# Altium integrated library Linx Technologies Integrated Circuit.IntLib: 9 symbols
Pins are listed as number, name and electrical type; pins without a type are passive.

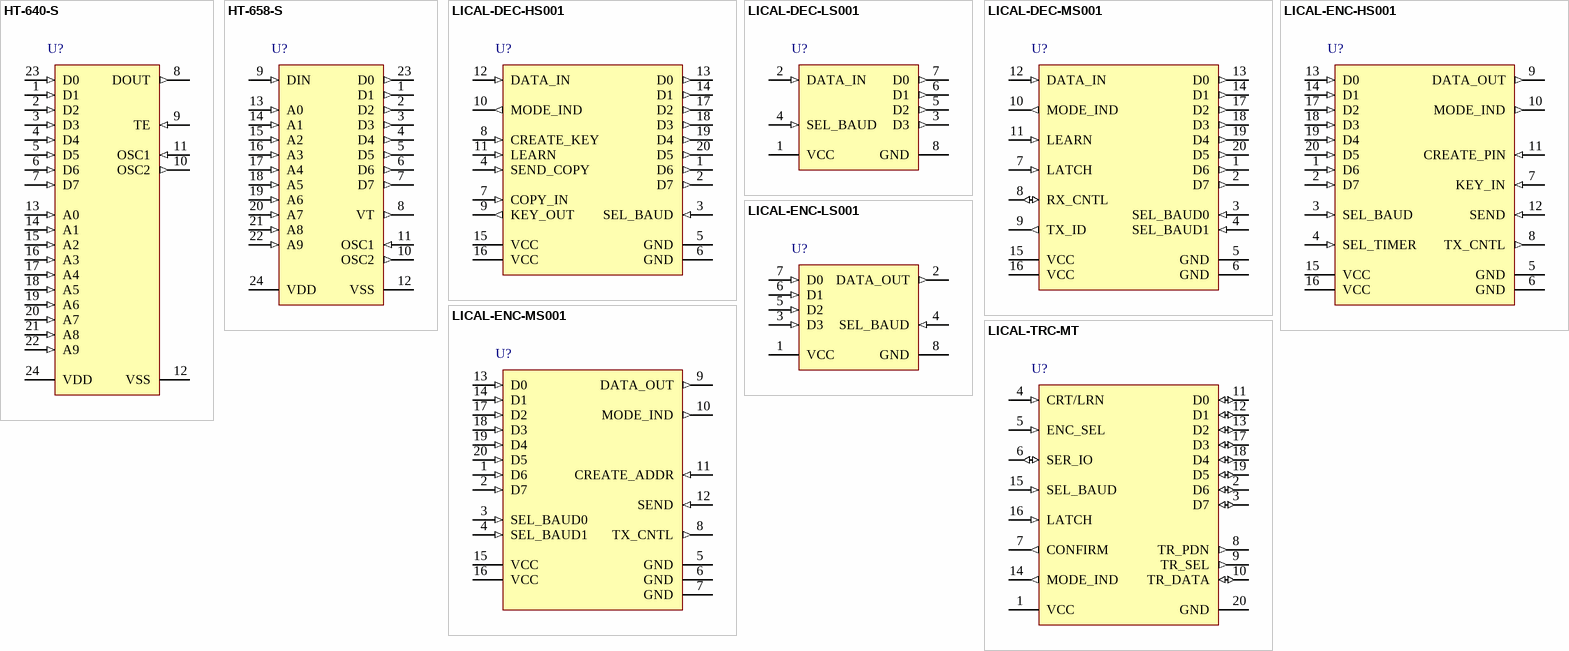
[diagram p0: symbols HT-640-S to LICAL-TRC-MT]

## HT-640-S
designator U?
Holtek Encoder for Remote Control, 24-Pin SOP; DatasheetVersion: 22/05/2004; PackageVersion: 22/05/2004; PackageReference: 24SOP; PackageDescription: 24-Pin Small Outline Package, 300mil Wide, 1.27 mm Pitch; Code_JEDEC: MS-013; ComponentLink1Description: Manufacturer URL; ComponentLink1URL: http://www.linxtechnologies.com/; ComponentLink2Description: Datasheet; ComponentLink2URL: http://www.linxtechnologies.com/Documents/HT640S_Specification.pdf
footprint SOIC127P1031X264-24N (SOIC, 24-Leads, Body 15.4x7.1mm, Pitch 1.27mm, IPC Medium Density)
footprint 24SOP_L (SOIC, 24-Leads, Body 15.4x7.1mm, Pitch 1.27mm, IPC High Density)
footprint 24SOP_M (SOIC, 24-Leads, Body 15.4x7.1mm, Pitch 1.27mm, IPC Low Density)
pins: 1 D1 (in), 2 D2 (in), 3 D3 (in), 4 D4 (in), 5 D5 (in), 6 D6 (in), 7 D7 (in), 8 DOUT (out), 9 TE (in), 10 OSC2 (out), 11 OSC1 (in), 12 VSS (power), 13 A0 (in), 14 A1 (in), 15 A2 (in), 16 A3 (in), 17 A4 (in), 18 A5 (in), 19 A6 (in), 20 A7 (in), 21 A8 (in), 22 A9 (in), 23 D0 (in), 24 VDD (power)

## HT-658-S
designator U?
Holtek Decoder for Remote Control, 24-Pin SOP; DatasheetVersion: 22/05/2004; PackageVersion: 22/05/2004; PackageReference: 24SOP; PackageDescription: 24-Pin Small Outline Package, 300mil Wide, 1.27 mm Pitch; Code_JEDEC: MS-013; ComponentLink1Description: Manufacturer URL; ComponentLink1URL: http://www.linxtechnologies.com/; ComponentLink2Description: Datasheet; ComponentLink2URL: http://www.linxtechnologies.com/Documents/HT658S_Specification.pdf
footprint SOIC127P1031X264-24N (SOIC, 24-Leads, Body 15.4x7.1mm, Pitch 1.27mm, IPC Medium Density)
footprint 24SOP_L (SOIC, 24-Leads, Body 15.4x7.1mm, Pitch 1.27mm, IPC High Density)
footprint 24SOP_M (SOIC, 24-Leads, Body 15.4x7.1mm, Pitch 1.27mm, IPC Low Density)
pins: 1 D1 (out), 2 D2 (out), 3 D3 (out), 4 D4 (out), 5 D5 (out), 6 D6 (out), 7 D7 (out), 8 VT (out), 9 DIN (in), 10 OSC2 (out), 11 OSC1 (in), 12 VSS (power), 13 A0 (in), 14 A1 (in), 15 A2 (in), 16 A3 (in), 17 A4 (in), 18 A5 (in), 19 A6 (in), 20 A7 (in), 21 A8 (in), 22 A9 (in), 23 D0 (out), 24 VDD (power)

## LICAL-DEC-HS001
designator U?
High Security Encrypted RF Remote Control Decoder, HS Series, 20-Pin SSOP; DatasheetVersion: 28/01/2008; PackageVersion: 28/01/2008; PackageReference: SSOP-20W2; PackageDescription: 20-pin Shrink Small Outline Package, 7.2 x 5.25 mm Body, 0.65 mm Pitch; ComponentLink1Description: Manufacturer URL; ComponentLink1URL: http://www.linxtechnologies.com/; ComponentLink2Description: Datasheet; ComponentLink2URL: http://www.linxtechnologies.com/Documents/LICAL-DEC-HS001_Data_Guide.pdf
footprint SSOP-20W2 (SSOP, 20-Leads, Body 7.2x5.25mm, Pitch 0.65mm)
pins: 1 D6 (out), 2 D7 (out), 3 SEL_BAUD (in), 4 SEND_COPY (in), 5 GND (power), 6 GND (power), 7 COPY_IN (in), 8 CREATE_KEY (in), 9 KEY_OUT (out), 10 MODE_IND (out), 11 LEARN (in), 12 DATA_IN (in), 13 D0 (out), 14 D1 (out), 15 VCC (power), 16 VCC (power), 17 D2 (out), 18 D3 (out), 19 D4 (out), 20 D5 (out)

## LICAL-DEC-LS001
designator U?
Remote Control Decoder, LS Series, DIP; DatasheetVersion: 28/01/2008; PackageVersion: 28/01/2008; PackageReference: DIP-8; PackageDescription: 8-Pin Dual In-Line Package (PDIP); ComponentLink1Description: Manufacturer URL; ComponentLink1URL: http://www.linxtechnologies.com/; ComponentLink2Description: Datasheet; ComponentLink2URL: http://www.linxtechnologies.com/Documents/LICAL-xxx-LS001_Data_Guide.pdf
footprint DIP-8 (DIP, 8-Pin, Row Spacing 7.62 mm, Pitch 2.54 mm)
pins: 1 VCC (power), 2 DATA_IN (in), 3 D3 (out), 4 SEL_BAUD (in), 5 D2 (out), 6 D1 (out), 7 D0 (out), 8 GND (power)

## LICAL-DEC-MS001
designator U?
Secure 8-Function RF Remote Control Decoder, MS Series, 20-Pin SSOP; DatasheetVersion: 28/01/2008; PackageVersion: 28/01/2008; PackageReference: SSOP-20W2; PackageDescription: 20-pin Shrink Small Outline Package, 7.2 x 5.25 mm Body, 0.65 mm Pitch; ComponentLink1Description: Manufacturer URL; ComponentLink1URL: http://www.linxtechnologies.com/; ComponentLink2Description: Datasheet; ComponentLink2URL: http://www.linxtechnologies.com/Documents/LICAL-DEC-MS001_Data_Guide.pdf
footprint SSOP-20W2 (SSOP, 20-Leads, Body 7.2x5.25mm, Pitch 0.65mm)
pins: 1 D6 (out), 2 D7 (out), 3 SEL_BAUD0 (in), 4 SEL_BAUD1 (in), 5 GND (power), 6 GND (power), 7 LATCH (in), 8 RX_CNTL (io), 9 TX_ID (out), 10 MODE_IND (out), 11 LEARN (in), 12 DATA_IN (in), 13 D0 (out), 14 D1 (out), 15 VCC (power), 16 VCC (power), 17 D2 (out), 18 D3 (out), 19 D4 (out), 20 D5 (out)

## LICAL-ENC-HS001
designator U?
High Security Encrypted RF Remote Control Encoder, HS Series, 20-Pin SSOP; DatasheetVersion: 28/01/2008; PackageVersion: 28/01/2008; PackageReference: SSOP-20W2; PackageDescription: 20-pin Shrink Small Outline Package, 7.2 x 5.25 mm Body, 0.65 mm Pitch; ComponentLink1Description: Manufacturer URL; ComponentLink1URL: http://www.linxtechnologies.com/; ComponentLink2Description: Datasheet; ComponentLink2URL: http://www.linxtechnologies.com/Documents/LICAL-ENC-HS001_Data_Guide.pdf
footprint SSOP-20W2 (SSOP, 20-Leads, Body 7.2x5.25mm, Pitch 0.65mm)
pins: 1 D6 (in), 2 D7 (in), 3 SEL_BAUD (in), 4 SEL_TIMER (in), 5 GND (power), 6 GND (power), 7 KEY_IN (in), 8 TX_CNTL (out), 9 DATA_OUT (out), 10 MODE_IND (out), 11 CREATE_PIN (in), 12 SEND (in), 13 D0 (in), 14 D1 (in), 15 VCC (power), 16 VCC (power), 17 D2 (in), 18 D3 (in), 19 D4 (in), 20 D5 (in)

## LICAL-ENC-LS001
designator U?
Remote Control Encoder, LS Series, DIP; DatasheetVersion: 28/01/2008; PackageVersion: 28/01/2008; PackageReference: DIP-8; PackageDescription: 8-Pin Dual In-Line Package (PDIP); ComponentLink1Description: Manufacturer URL; ComponentLink1URL: http://www.linxtechnologies.com/; ComponentLink2Description: Datasheet; ComponentLink2URL: http://www.linxtechnologies.com/Documents/LICAL-xxx-LS001_Data_Guide.pdf
footprint DIP-8 (DIP, 8-Pin, Row Spacing 7.62 mm, Pitch 2.54 mm)
pins: 1 VCC (power), 2 DATA_OUT (out), 3 D3 (in), 4 SEL_BAUD (in), 5 D2 (in), 6 D1 (in), 7 D0 (in), 8 GND (power)

## LICAL-ENC-MS001
designator U?
Secure 8-Function RF Remote Control Encoder, MS Series, 20-Pin SSOP; DatasheetVersion: 18/02/2010; PackageVersion: 18/02/2010; PackageReference: SSOP-20W2; PackageDescription: 20-pin Shrink Small Outline Package, 7.2 x 5.25 mm Body, 0.65 mm Pitch; ComponentLink1Description: Manufacturer URL; ComponentLink1URL: http://www.linxtechnologies.com/; ComponentLink2Description: Datasheet; ComponentLink2URL: http://www.linxtechnologies.com/Documents/LICAL-ENC-MS001_Data_Guide.pdf
footprint SSOP-20W2 (SSOP, 20-Leads, Body 7.2x5.25mm, Pitch 0.65mm)
pins: 1 D6 (in), 2 D7 (in), 3 SEL_BAUD0 (in), 4 SEL_BAUD1 (in), 5 GND (power), 6 GND (power), 7 GND (power), 8 TX_CNTL (out), 9 DATA_OUT (out), 10 MODE_IND (out), 11 CREATE_ADDR (in), 12 SEND (in), 13 D0 (in), 14 D1 (in), 15 VCC (power), 16 VCC (power), 17 D2 (in), 18 D3 (in), 19 D4 (in), 20 D5 (in)

## LICAL-TRC-MT
designator U?
Bi-Directional Remote Control Transcoder, MT Series, 20-Pin SSOP; DatasheetVersion: 25/04/2008; PackageVersion: 25/04/2008; PackageReference: SSOP-20W2; PackageDescription: 20-pin Shrink Small Outline Package, 7.2 x 5.25 mm Body, 0.65 mm Pitch; ComponentLink1Description: Manufacturer URL; ComponentLink1URL: http://www.linxtechnologies.com/; ComponentLink2Description: Datasheet; ComponentLink2URL: http://www.linxtechnologies.com/Documents/LICAL-TRC-MT001_Data_Guide.pdf
footprint SSOP-20W2 (SSOP, 20-Leads, Body 7.2x5.25mm, Pitch 0.65mm)
pins: 1 VCC (power), 2 D6 (io), 3 D7 (io), 4 CRT/LRN (in), 5 ENC_SEL (in), 6 SER_IO (io), 7 CONFIRM (out), 8 TR_PDN (out), 9 TR_SEL (out), 10 TR_DATA (io), 11 D0 (io), 12 D1 (io), 13 D2 (io), 14 MODE_IND (out), 15 SEL_BAUD (in), 16 LATCH (in), 17 D3 (io), 18 D4 (io), 19 D5 (io), 20 GND (power)